# Altium schematic symbol library STM32H753XIH6.SchLib: 2 symbols
Pins are listed as number, name and electrical type; pins without a type are passive.

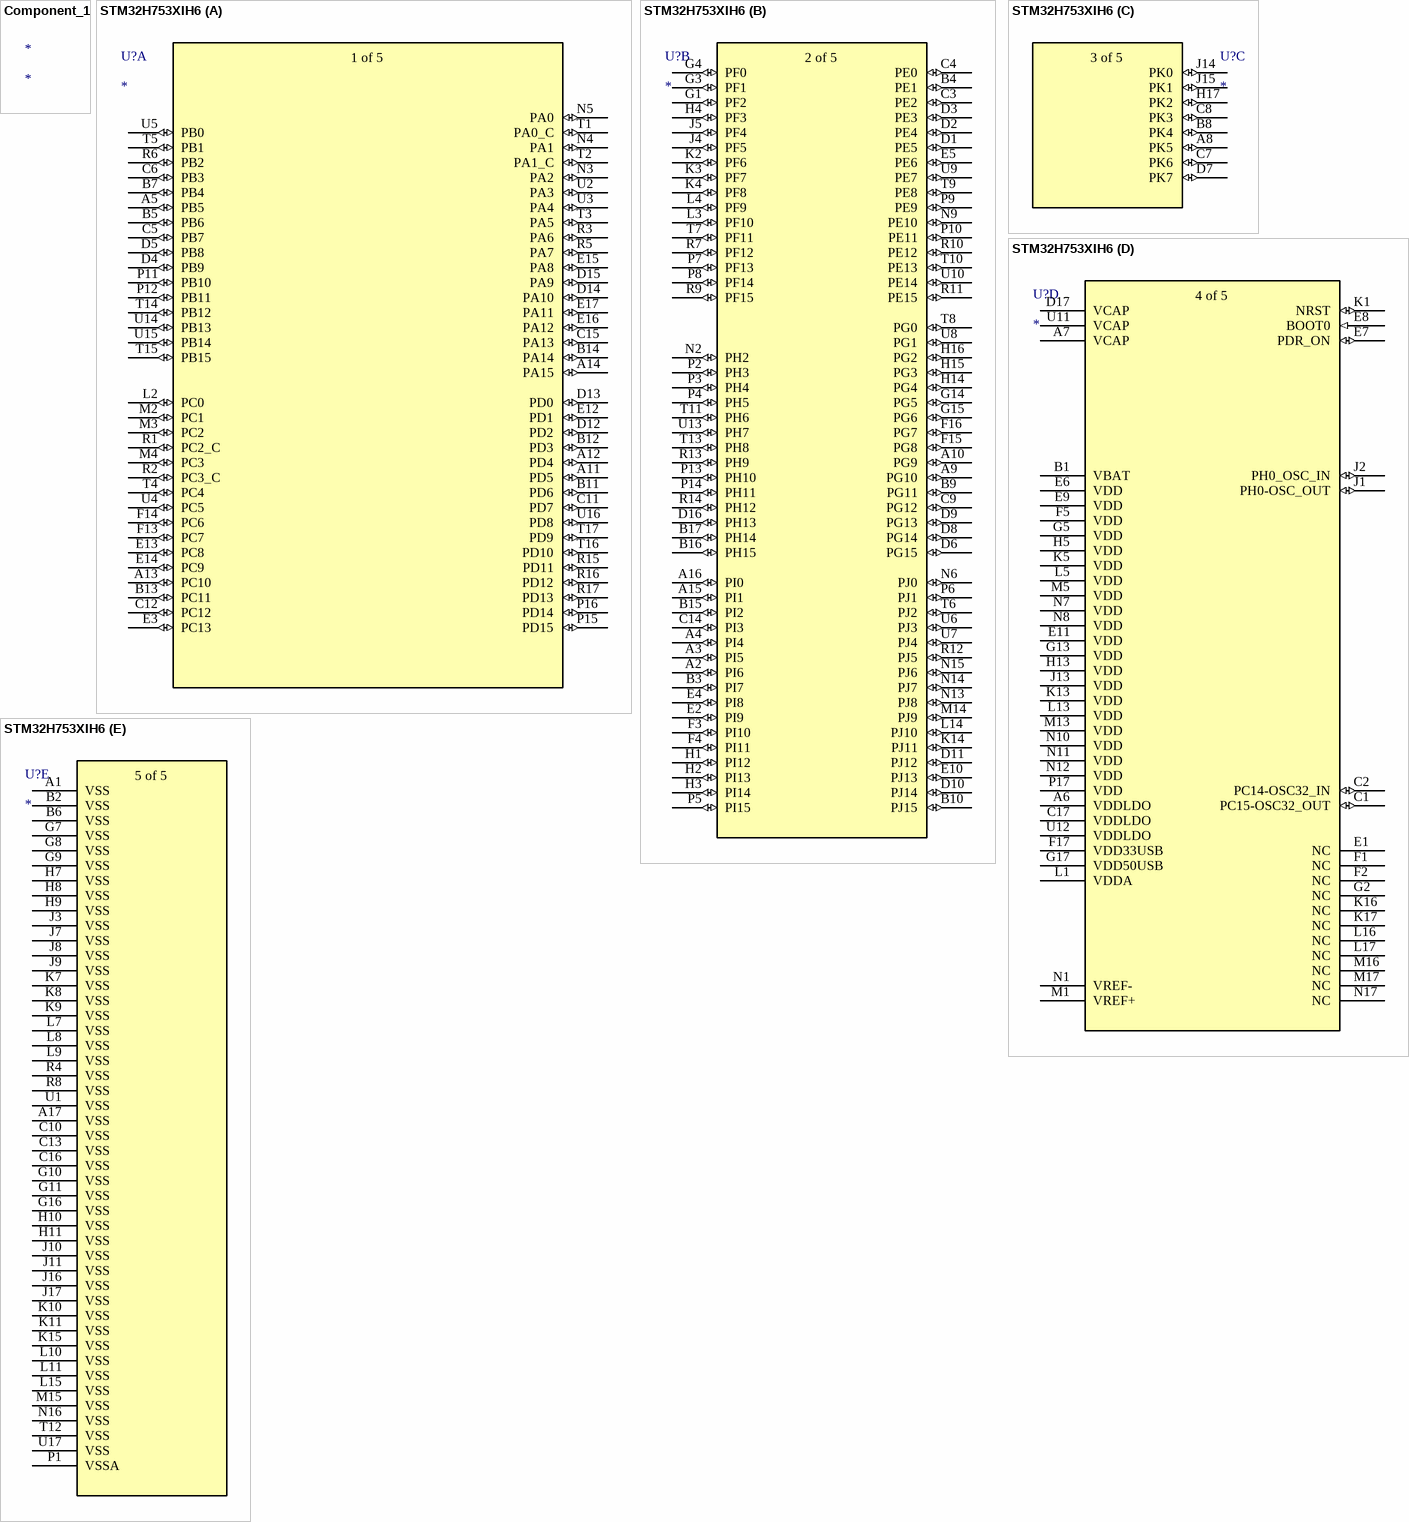
[diagram p0: symbols Component_1 to STM32H753XIH6]

## Component_1
designator *

## STM32H753XIH6
designator U?
No Description Available; Mfr_Name: STMicroelectronics; RefDes: RefDes; Type: Type
footprint TFBGA240+25_STM
part A pins: A5 PB5 (io), A11 PD5 (io), A12 PD4 (io), A13 PC10 (io), A14 PA15 (io), B5 PB6 (io), B7 PB4 (io), B11 PD6 (io), B12 PD3 (io), B13 PC11 (io), B14 PA14 (io), C5 PB7 (io), C6 PB3 (io), C11 PD7 (io), C12 PC12 (io), C15 PA13 (io), D4 PB9 (io), D5 PB8 (io), D12 PD2 (io), D13 PD0 (io), D14 PA10 (io), D15 PA9 (io), E3 PC13 (io), E12 PD1 (io), E13 PC8 (io), E14 PC9 (io), E15 PA8 (io), E16 PA12 (io), E17 PA11 (io), F13 PC7 (io), F14 PC6 (io), L2 PC0 (io), M2 PC1 (io), M3 PC2 (io), M4 PC3 (io), N3 PA2 (io), N4 PA1 (io), N5 PA0 (io), P11 PB10 (io), P12 PB11 (io), P15 PD15 (io), P16 PD14 (io), R1 PC2_C (io), R2 PC3_C (io), R3 PA6 (io), R5 PA7 (io), R6 PB2 (io), R15 PD11 (io), R16 PD12 (io), R17 PD13 (io), T1 PA0_C (io), T2 PA1_C (io), T3 PA5 (io), T4 PC4 (io), T5 PB1 (io), T14 PB12 (io), T15 PB15 (io), T16 PD10 (io), T17 PD9 (io), U2 PA3 (io), U3 PA4 (io), U4 PC5 (io), U5 PB0 (io), U14 PB13 (io), U15 PB14 (io), U16 PD8 (io)
part B pins: A2 PI6 (io), A3 PI5 (io), A4 PI4 (io), A9 PG10 (io), A10 PG9 (io), A15 PI1 (io), A16 PI0 (io), B3 PI7 (io), B4 PE1 (io), B9 PG11 (io), B10 PJ15 (io), B15 PI2 (io), B16 PH15 (io), B17 PH14 (io), C3 PE2 (io), C4 PE0 (io), C9 PG12 (io), C14 PI3 (io), D1 PE5 (io), D2 PE4 (io), D3 PE3 (io), D6 PG15 (io), D8 PG14 (io), D9 PG13 (io), D10 PJ14 (io), D11 PJ12 (io), D16 PH13 (io), E2 PI9 (io), E4 PI8 (io), E5 PE6 (io), E10 PJ13 (io), F3 PI10 (io), F4 PI11 (io), F15 PG8 (io), F16 PG7 (io), G1 PF2 (io), G3 PF1 (io), G4 PF0 (io), G14 PG5 (io), G15 PG6 (io), H1 PI12 (io), H2 PI13 (io), H3 PI14 (io), H4 PF3 (io), H14 PG4 (io), H15 PG3 (io), H16 PG2 (io), J4 PF5 (io), J5 PF4 (io), K2 PF6 (io), K3 PF7 (io), K4 PF8 (io), K14 PJ11 (io), L3 PF10 (io), L4 PF9 (io), L14 PJ10 (io), M14 PJ9 (io), N2 PH2 (io), N6 PJ0 (io), N9 PE10 (io), N13 PJ8 (io), N14 PJ7 (io), N15 PJ6 (io), P2 PH3 (io), P3 PH4 (io), P4 PH5 (io), P5 PI15 (io), P6 PJ1 (io), P7 PF13 (io), P8 PF14 (io), P9 PE9 (io), P10 PE11 (io), P13 PH10 (io), P14 PH11 (io), R7 PF12 (io), R9 PF15 (io), R10 PE12 (io), R11 PE15 (io), R12 PJ5 (io), R13 PH9 (io), R14 PH12 (io), T6 PJ2 (io), T7 PF11 (io), T8 PG0 (io), T9 PE8 (io), T10 PE13 (io), T11 PH6 (io), T13 PH8 (io), U6 PJ3 (io), U7 PJ4 (io), U8 PG1 (io), U9 PE7 (io), U10 PE14 (io), U13 PH7 (io)
part C pins: A8 PK5 (io), B8 PK4 (io), C7 PK6 (io), C8 PK3 (io), D7 PK7 (io), H17 PK2 (io), J14 PK0 (io), J15 PK1 (io)
part D pins: A6 VDDLDO (power), A7 VCAP (power), B1 VBAT (power), C1 PC15-OSC32_OUT (io), C2 PC14-OSC32_IN (io), C17 VDDLDO (power), D17 VCAP (power), E1 NC, E6 VDD (power), E7 PDR_ON (io), E8 BOOT0 (in), E9 VDD (power), E11 VDD (power), F1 NC, F2 NC, F5 VDD (power), F17 VDD33USB (power), G2 NC, G5 VDD (power), G13 VDD (power), G17 VDD50USB (power), H5 VDD (power), H13 VDD (power), J1 PH0-OSC_OUT (io), J2 PH0_OSC_IN (io), J13 VDD (power), K1 NRST (io), K5 VDD (power), K13 VDD (power), K16 NC, K17 NC, L1 VDDA (power), L5 VDD (power), L13 VDD (power), L16 NC, L17 NC, M1 VREF+ (power), M5 VDD (power), M13 VDD (power), M16 NC, M17 NC, N1 VREF- (power), N7 VDD (power), N8 VDD (power), N10 VDD (power), N11 VDD (power), N12 VDD (power), N17 NC, P17 VDD (power), U11 VCAP (power), U12 VDDLDO (power)
part E pins: A1 VSS (power), A17 VSS (power), B2 VSS (power), B6 VSS (power), C10 VSS (power), C13 VSS (power), C16 VSS (power), G7 VSS (power), G8 VSS (power), G9 VSS (power), G10 VSS (power), G11 VSS (power), G16 VSS (power), H7 VSS (power), H8 VSS (power), H9 VSS (power), H10 VSS (power), H11 VSS (power), J3 VSS (power), J7 VSS (power), J8 VSS (power), J9 VSS (power), J10 VSS (power), J11 VSS (power), J16 VSS (power), J17 VSS (power), K7 VSS (power), K8 VSS (power), K9 VSS (power), K10 VSS (power), K11 VSS (power), K15 VSS (power), L7 VSS (power), L8 VSS (power), L9 VSS (power), L10 VSS (power), L11 VSS (power), L15 VSS (power), M15 VSS (power), N16 VSS (power), P1 VSSA (power), R4 VSS (power), R8 VSS (power), T12 VSS (power), U1 VSS (power), U17 VSS (power)
part A text: 1 of 5
part B text: 2 of 5
part C text: 3 of 5
part D text: 4 of 5
part E text: 5 of 5